# Altium schematic symbol library CustomComp.SchLib: 12 symbols
Pins are listed as number, name and electrical type; pins without a type are passive.

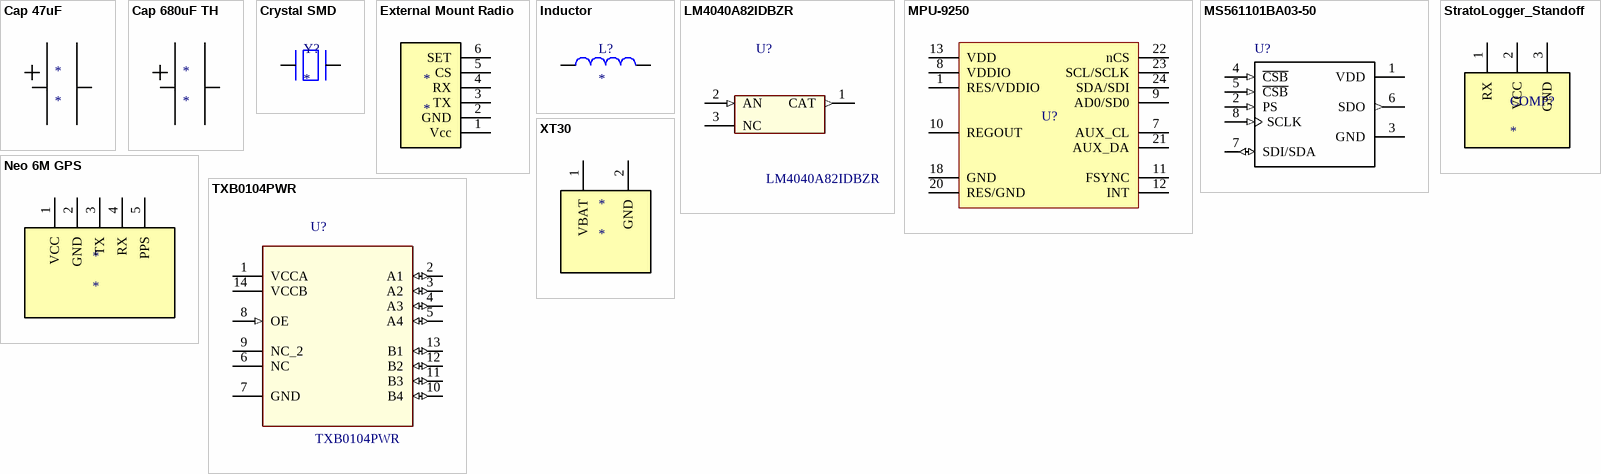
[diagram p0: symbols Cap 47uF to XT30]

## Cap 47uF
designator *
footprint 47 uF Cap
pins: 1, 2

## Cap 680uF TH
designator *
footprint 680 uF Cap
pins: 1, 2

## Crystal SMD
designator Y?
footprint Crystal SMD
pins: 1, 2

## External Mount Radio
designator *
footprint External Mount Radio
pins: 1 Vcc, 2 GND, 3 TX, 4 RX, 5 CS, 6 SET

## Inductor
designator L?
footprint Inductor
pins: 1, 2

## LM4040A82IDBZR
designator U?
Precision Micropower Shunt Voltage Reference, 0.1% accuracy 3-SOT-23 -40 to 85; MF: Texas Instruments; Availability: Unavailable; Package: SOT-23-3 Texas Instruments; Price: None; SnapEDA_Link: https://www.snapeda.com/parts/LM4040A82IDBZR/Texas%20Instruments/view-part/?ref=snap; MP: LM4040A82IDBZR; Value: *
footprint SOT95P237X112-3N
footprint SOT95P237X112-3N
pins: 1 CAT (out), 2 AN (in), 3 NC

## MPU-9250
designator U?  (value not drawn)
footprint QFN40P300X300X105_HS-25L (QFN, 24-Leads, Body 3.00x3.00mm, Pitch 0.40mm, Thermal Pad 1.70x1.54mm, IPC High Density)
pins: 1 RES/VDDIO, 7 AUX_CL, 8 VDDIO, 9 AD0/SD0, 10 REGOUT, 11 FSYNC, 12 INT, 13 VDD, 18 GND, 20 RES/GND, 21 AUX_DA, 22 nCS, 23 SCL/SCLK, 24 SDA/SDI

## MS561101BA03-50
designator U?  (value not drawn)
Pressure Sensor 1.44V to 3.6V 0.01bar to 1.2bar Absolute 8-Pin QFN T/R; MF: TE Connectivity; Price: None; Package: SMD-8 Measurement Specialties; TE_purchase_URL: https://www.te.com/usa-en/product-MS561101BA03-50.html?te_bu=Cor&te_type=disp&te_campaign=seda_glo_cor-seda-global-disp-prtnr-fy19-seda-model-bom-cta_sma-317_1&elqCampaignId=32493; SnapEDA_Link: https://www.snapeda.com/parts/MS561101BA03-50/TE%20Connectivity%20ALCOSWITCH%20Switches/view-part/?ref=snap; Availability: Unavailable; MP: MS561101BA03-50; Value: *
footprint SON125P500X300X100-8N
footprint SON125P500X300X100-8N
pins: 1 VDD (power), 2 PS (in), 3 GND (power), 4 ~{CSB} (in), 5 ~{CSB} (in), 6 SDO (out), 7 SDI/SDA (io), 8 SCLK (in)

## Neo 6M GPS
designator *
footprint Neo 6M GPS
pins: 1 VCC, 2 GND, 3 TX, 4 RX, 5 PPS

## StratoLogger_Standoff
designator COMP?
footprint StratoLogger_S (Flight computer mounted on M3 standoffs)
pins: 1 RX, 2 VCC, 3 GND

## TXB0104PWR
designator U?
4-Bit Bidirectional Voltage-Level Shifter with Auto Direction Sensing and +/-15 kV ESD Protect 14-TSSOP -40 to 85; MF: Texas Instruments; SnapEDA_Link: https://www.snapeda.com/parts/TXB0104PWR/Texas%20Instruments/view-part/?ref=snap; Package: TSSOP-14 Texas Instruments; Availability: Unavailable; Price: None; MP: TXB0104PWR; Value: *
footprint SOP65P640X120-14N
pins: 1 VCCA (power), 2 A1 (io), 3 A2 (io), 4 A3 (io), 5 A4 (io), 6 NC, 7 GND, 8 OE (in), 9 NC_2, 10 B4 (io), 11 B3 (io), 12 B2 (io), 13 B1 (io), 14 VCCB (power)

## XT30
designator *
footprint XT30
pins: 1 VBAT, 2 GND